# EAGLE library part AME (library AME)
AME5142
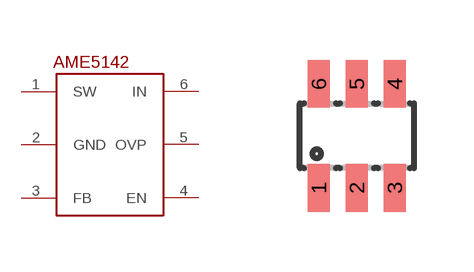
[diagram p0: symbol with the pads of AME; footprint AME]

Designator prefix -

## AME  [AME]
1  SW
2  GND
3  FB
4  EN
5  OVP
6  IN

## Footprint AME (pad centres in mm)
AME5142
smd 0.55 x 1.2: 1 -0.95,-1.3; 2 0,-1.3; 3 0.95,-1.3; 4 0.95,1.3; 5 0,1.3; 6 -0.95,1.3